# Altium footprint library UPT-04-01-01-L-RA-LC.PcbLib: 2 footprints
Each footprint in its own frame and in the unit in brackets; x right, y up, seen from the top. Pads: shape width x height; smd on the part's side, far side on the other; paste and mask are expansions set on the pad; w line width, h text height; cw(c..) or ccw(c..) is an arc to the next point about the centre after c.
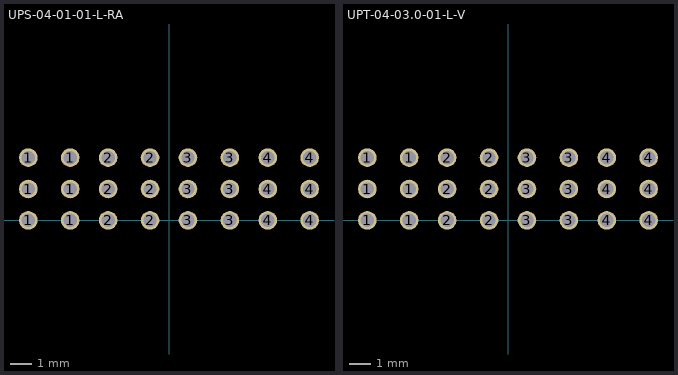
[diagram p0: the footprints below, top view; thin cyan lines are the x and y axes]

## UPS-04-01-01-L-RA [mil]
pads (24):
  round 35 hole 25 unplated: 1(-264.35,0) 1(-264.35,59) 1(-264.35,118) 1(-185.65,0) 1(-185.65,59) 1(-185.65,118) 2(-114.35,0) 2(-114.35,59) 2(-114.35,118) 2(-35.65,0) 2(-35.65,59) 2(-35.65,118) 3(35.65,0) 3(35.65,59) 3(35.65,118) 3(114.35,0) 3(114.35,59) 3(114.35,118) 4(185.65,0) 4(185.65,59) 4(185.65,118) 4(264.35,0) 4(264.35,59) 4(264.35,118)
via 385,59 diameter 45 hole 45
via -385,59 diameter 45 hole 45
3D body "UPS-04-01-01-L-RA.stp": height 282.48, standoff -104.13, extent -433.08,-371.77 433.07,130

## UPT-04-03.0-01-L-V [mil]
pads (24):
  round 35 hole 25 unplated: 1(-264.35,0) 1(-264.35,59) 1(-264.35,118) 1(-185.65,0) 1(-185.65,59) 1(-185.65,118) 2(-114.35,0) 2(-114.35,59) 2(-114.35,118) 2(-35.65,0) 2(-35.65,59) 2(-35.65,118) 3(35.65,0) 3(35.65,59) 3(35.65,118) 3(114.35,0) 3(114.35,59) 3(114.35,118) 4(185.65,0) 4(185.65,59) 4(185.65,118) 4(264.35,0) 4(264.35,59) 4(264.35,118)
via -472.5,-3 diameter 45 hole 45
via 472.5,-3 diameter 45 hole 45
3D body "UPT-04-03.0-01-L-V.stp": height 265, standoff -97.6, extent -501.96,-122.16 501.97,232.17